# Altium schematic symbol library MyComponents_v2.5.SchLib: 259 symbols (part 3 of 3)
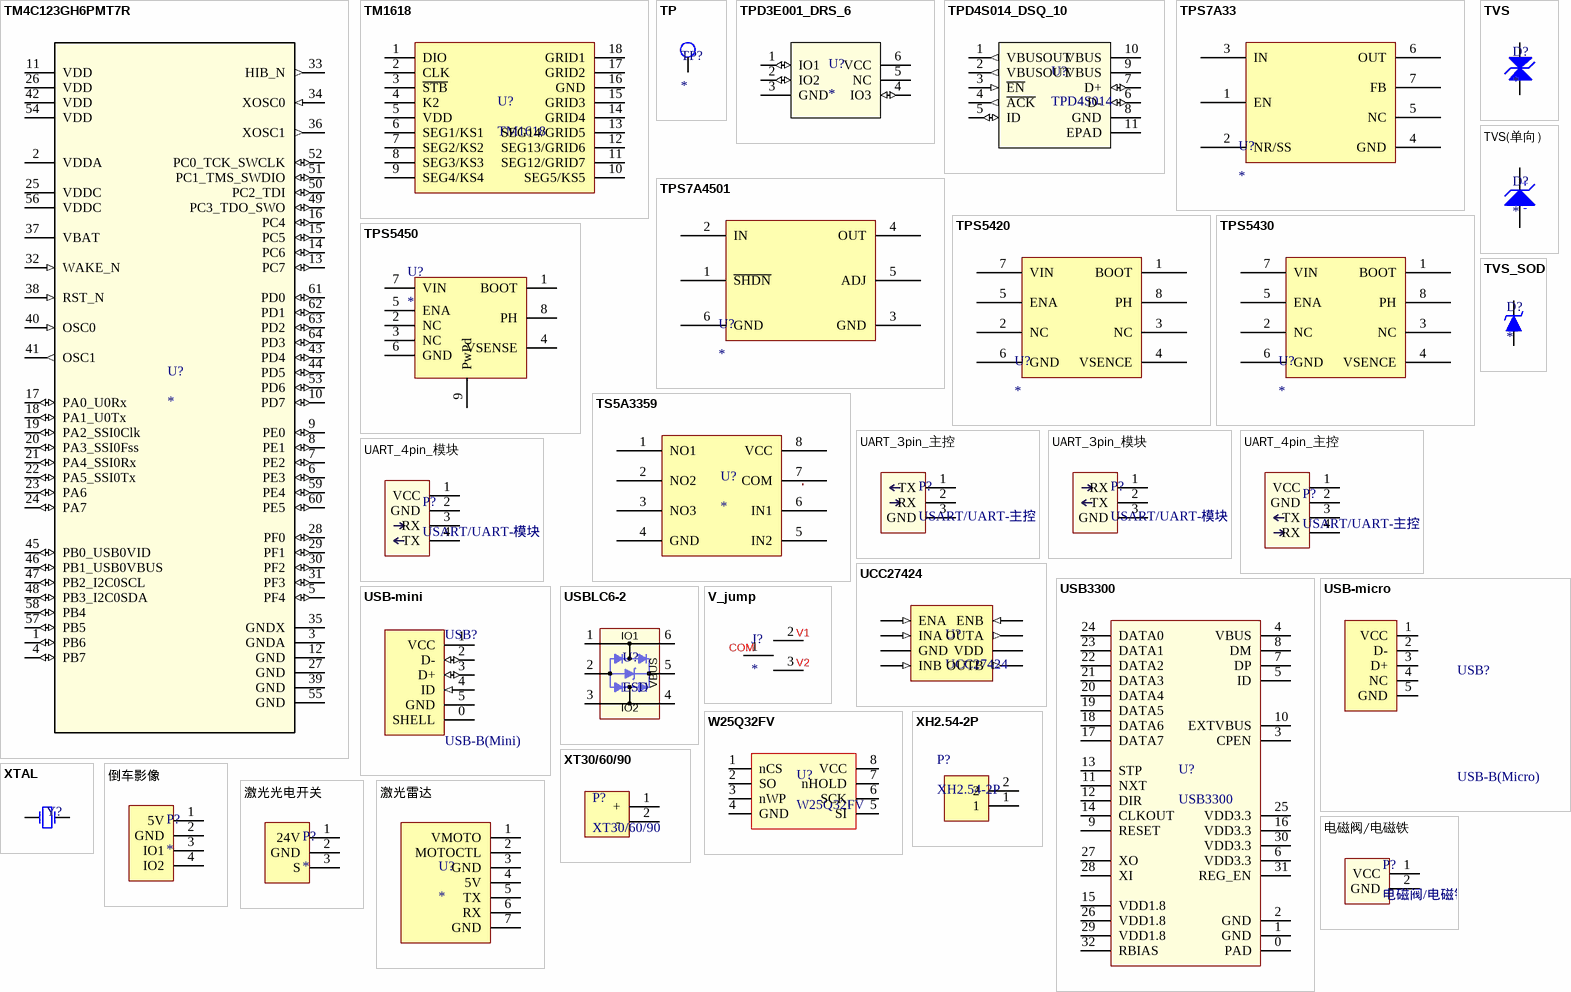
[diagram p15: symbols TM4C123GH6PMT7R to 电磁阀/电磁铁]

## TS5A3359
designator U?
模拟开关（单刀三掷）
footprint VSSOP(DCU) (TS5A3359)
pins: 1 NO1, 2 NO2, 3 NO3, 4 GND, 5 IN2, 6 IN1, 7 COM, 8 VCC

## TVS
designator D?
footprint SMB/DO-214AA_d (双向)
pins: 1, 2

## TVS(单向）
designator D?
footprint TVS_10mm
footprint SMB/DO-214AA
pins: 1, 2
text: +; -

## TVS_SOD
designator D?
footprint SOD-523 (SODFL, 2-Leads, Body 1.30x2.55mm, IPC Medium Density)
footprint SOD-323- (开关二极管2.60mmx1.20mm)
pins: 1, 2

## UART_3pin_主控
designator P?, comment USART/UART-主控
Reference: UART_3pin_主控
footprint HY2.00MM 3x1 (额定电流2A)
footprint HY2.00MM 3x1立式 (额定电流2A)
pins: 1 TX, 2 RX, 3 GND

## UART_3pin_模块
designator P?, comment USART/UART-模块
Reference: UART_3pin_模块
footprint HY2.00MM 3x1 (额定电流2A)
footprint HY2.00MM 3x1立式 (额定电流2A)
footprint HY2.00MM 3X1 SMT
pins: 1 RX, 2 TX, 3 GND

## UART_4pin_主控
designator P?, comment USART/UART-主控
带电源串口
footprint HY2.00MM 4X1立式
footprint HY2.00MM 4X1
pins: 1 VCC, 2 GND, 3 TX, 4 RX

## UART_4pin_模块
designator P?, comment USART/UART-模块
带电源串口
footprint HY2.00MM 4X1立式
footprint HY2.00MM 4X1
pins: 1 VCC, 2 GND, 3 RX, 4 TX

## UCC27424
designator U?
footprint SOIC-8
pins: 1 ENA (in), 2 INA (in), 3 GND, 4 INB (in), 5 ENB (in), 6 OUTA (out), 7 VDD (power), 8 OUTB (out)

## USB3300
designator U?  (mechanical)
footprint QFN32_Thermal
footprint QFN32
pins: 0 PAD, 1 GND, 2 GND, 3 CPEN, 4 VBUS, 5 ID, 6 VDD3.3, 7 DP, 8 DM, 9 RESET, 10 EXTVBUS, 11 NXT, 12 DIR, 13 STP, 14 CLKOUT, 15 VDD1.8, 16 VDD3.3, 17 DATA7, 18 DATA6, 19 DATA5, 20 DATA4, 21 DATA3, 22 DATA2, 23 DATA1, 24 DATA0, 25 VDD3.3, 26 VDD1.8, 27 XO, 28 XI, 29 VDD1.8, 30 VDD3.3, 31 REG_EN, 32 RBIAS

## USB-micro
designator USB?, comment USB-B(Micro)
footprint MICRO-B-RECEPTACLE-100
footprint Micro-USB_femal
footprint USB-micro_A (micro型USB ，5.7*7.8*2.5mm)
pins: 1 VCC, 2 D-, 3 D+, 4 NC, 5 GND

## USB-mini
designator USB?, comment USB-B(Mini)
footprint Mini-B-RECEPTACLE-SMT
pins: 0 SHELL, 1 VCC, 2 D- (io), 3 D+ (io), 4 ID (in), 5 GND

## USBLC6-2
designator U?, comment ESD
2 data-line protection ,Protects VBUS
footprint SOT-666
pins: 1 IO1, 2 GND, 3 IO2, 4 IO2, 5 VBUS, 6 IO1

## V_jump
designator J?
footprint V_jump
pins: 1 COM, 2 V1, 3 V2

## W25Q32FV
designator U?
footprint SOP-8
pins: 1 nCS, 2 SO, 3 nWP, 4 GND, 5 SI, 6 SCK, 7 nHOLD, 8 VCC

## XH2.54-2P
designator P?
footprint MX4.2MM_1X2AW (4.2mm间距)
footprint XH-2A _SMT (2A,2.54mm)
footprint XH-2A (2A,2.54mm)
footprint XH-2AW (2A,2.54mm)
pins: 1, 2

## XT30/60/90
designator P?
footprint XT30PW-Female (XT30卧式母头插座)
footprint XT30PW-Male (XT30卧式公头插座)
footprint XT60PW-FEMALE
footprint XT60PW-MALE
footprint XT60立式MALE (输入)
footprint XT60立式female (输出)
footprint XT30UPB-FEMALE
footprint XT30UPB-MALE
pins: 1 +, 2 -

## XTAL
designator Y?  (value not drawn)
Crystal Oscillator; Published: 8-Jun-2000; LatestRevisionDate: 17-Jul-2002; LatestRevisionNote: Re-released for DXP Platform.; PackageReference: R38; Publisher: Altium Limited; PackageDescription: Crystal, Thru-Hole; 2 Leads; Body 3.1 x 8.2 mm (Dia.xH)
simulation model XTAL (Spice Subcircuit)
footprint HC-49S_Plug (插件封装)
footprint NX5032GA (贴片晶振，5mm x 3.2mm)
footprint NX3225GD
pins: 1 OSC1, 2 OSC2

## 倒车影像
designator P?
footprint HY2.00MM 4X1立式
pins: 1 5V, 2 GND, 3 IO1, 4 IO2

## 激光光电开关
designator P?
footprint HY2.00MM 3x1立式 (额定电流2A)
pins: 1 24V, 2 GND, 3 S

## 激光雷达
designator U?
footprint 5264-AW_7way (额定电压250V,额定电流2A,孔径0.7mm，接触电阻0.02R,适用印制板厚度1.6mm)
pins: 1 VMOTO, 2 MOTOCTL, 3 GND, 4 5V, 5 TX, 6 RX, 7 GND

## 电磁阀/电磁铁
designator P?
footprint HY2.00MM 2X1_立式 (额定电流2A，额定电压250V)
footprint HY2.00MM 2X1 SMT
pins: 1 VCC, 2 GND